# EAGLE library part LED_7SEG_CC (library BW-Active)
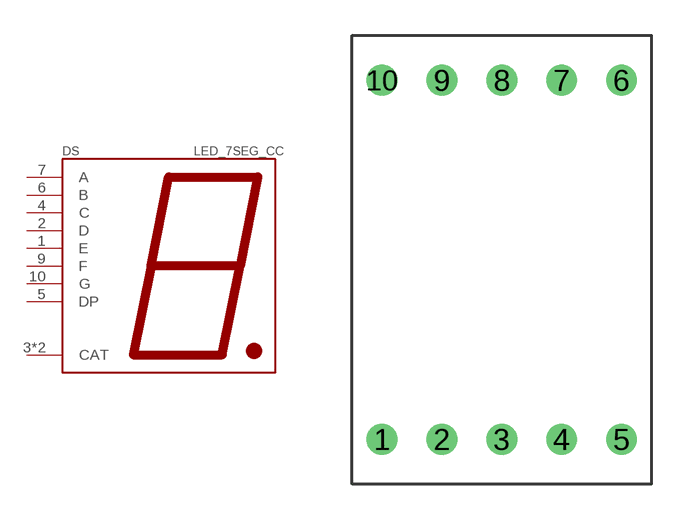
[diagram p5: symbol with the pads of LED_7SEG; footprint LED_7SEG]

Designator prefix DS

## LED_7SEG_CC  [LED_7SEG]
1  E
2  D
3  CAT
4  C
5  DP
6  B
7  A
8  CAT
9  F
10  G

## Footprint LED_7SEG (pad centres in mm)
drill 0.8: 1 -5.08,-7.62; 2 -2.54,-7.62; 3 0,-7.62; 4 2.54,-7.62; 5 5.08,-7.62; 6 5.08,7.62; 7 2.54,7.62; 8 0,7.62; 9 -2.54,7.62; 10 -5.08,7.62